# Altium schematic symbol library CN_4P.SchLib: 2 symbols
Pins are listed as number, name and electrical type; pins without a type are passive.

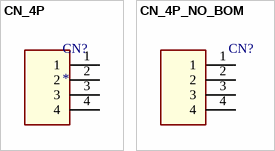
[diagram p0: symbols CN_4P to CN_4P_NO_BOM]

## CN_4P
designator CN?
pins: 1, 2, 3, 4

## CN_4P_NO_BOM
designator CN?  (no BOM)
pins: 1, 2, 3, 4